# Altium schematic symbol library SensorDisplay.SchLib: 4 symbols
Pins are listed as number, name and electrical type; pins without a type are passive.

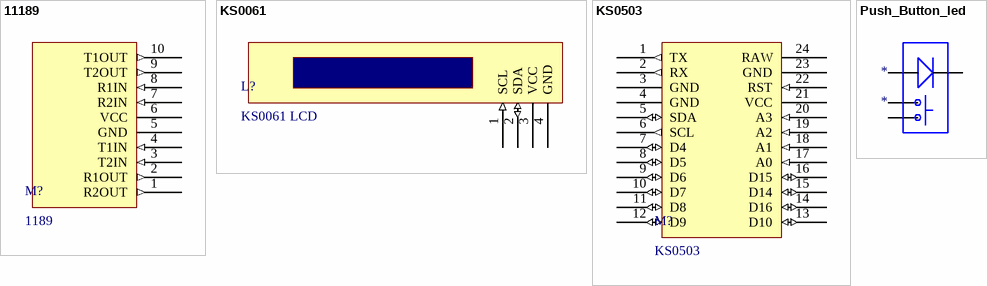
[diagram p0: symbols 11189 to Push_Button_led]

## 11189
designator M?, comment 1189
MAX3232 Tranceiver
pins: 1 R2OUT (out), 2 R1OUT (out), 3 T2IN (in), 4 T1IN (in), 5 GND (power), 6 VCC (power) "VCC 3V-5.5V", 7 R2IN (in), 8 R1IN (in), 9 T2OUT (out), 10 T1OUT (out)

## KS0061
designator L?, comment KS0061 LCD
pins: 1 SCL (in), 2 SDA (io), 3 VCC (power), 4 GND (power)

## KS0503
designator M?
pins: 1 TX (out), 2 RX (out), 3 GND (power), 4 GND (power), 5 SDA (io), 6 SCL (out), 7 D4 (io), 8 D5 (io), 9 D6 (io), 10 D7 (io), 11 D8 (io), 12 D9 (io), 13 D10 (io), 14 D16 (io), 15 D14 (io), 16 D15 (io), 17 A0 (in), 18 A1 (in), 19 A2 (in) "GND", 20 A3 (in), 21 VCC (power), 22 RST (in), 23 GND (power), 24 RAW (power)

## Push_Button_led
designator *
pins: 1 A (power) "ANODE", 2 K (power) "CATHODE", 3, 4